# Altium schematic symbol library PCB_Project1.SCHLIB: 15 symbols
Pins are listed as number, name and electrical type; pins without a type are passive.

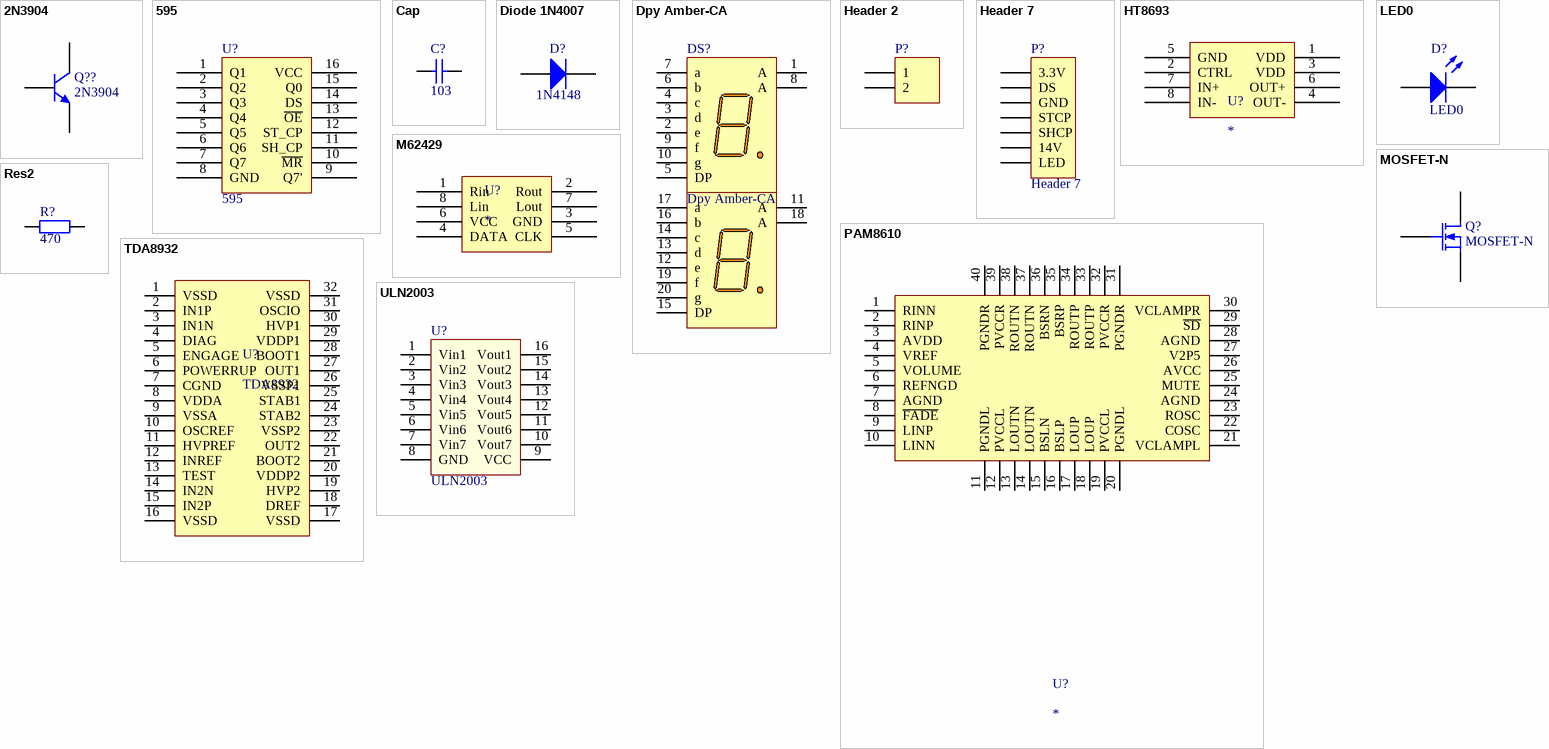
[diagram p0: symbols 2N3904 to ULN2003]

## 2N3904
designator Q??
NPN General Purpose Amplifier; Published: 8-Jun-2000; LatestRevisionDate: 15-Jan-2003; LatestRevisionNote: PCB Footprint 'BCY-W3/D4.7' replaced; DatasheetVersion: 1997; PackageVersion: Sep-1998; PackageReference: TO-92A; Publisher: Altium Limited; PackageDescription: TO, Flat Index; 3 In-Line, Axial Leads; Body Dia. 4.5mm; Leads 0.51 x 0.48 mm (max); ComponentLink1Description: Manufacturer Link; ComponentLink1URL: http://www.fairchildsemi.com/; ComponentLink2Description: Datasheet; ComponentLink2URL: http://www.fairchildsemi.com/ds/2N%2F2N3904.pdf
footprint TO-92A (TO, Flat Index; 3 In-Line, Axial Leads; Body Dia. 4.5mm; Leads 0.51 x 0.48 mm (max))
simulation model 2N3904 (NPN)
signal-integrity model 2N3904
pins: 1 E, 2 B, 3 C

## 595
designator U?
footprint SO-16
pins: 1 Q1, 2 Q2, 3 Q3, 4 Q4, 5 Q5, 6 Q6, 7 Q7, 8 GND, 9 Q7', 10 ~{MR}, 11 SH_CP, 12 ST_CP, 13 ~{OE}, 14 DS, 15 Q0, 16 VCC

## Cap
designator C?  value 103  (hidden comment: Cap)
Capacitor; Published: 8-Jun-2000; LatestRevisionDate: 17-Jul-2002; LatestRevisionNote: Re-released for DXP Platform.; PackageReference: RAD-0.3; Publisher: Altium Limited; PackageDescription: Radial Cap, Thru-Hole; 2 Leads; 0.3 in Pin Spacing
footprint RAD-0.3 (Radial Cap, Thru-Hole; 2 Leads; 0.3 in Pin Spacing)
simulation model CAP (Capacitor)
signal-integrity model Cap
pins: 1, 2

## Diode 1N4007
designator D?, comment 1N4148
1 Amp General Purpose Rectifier; Published: 8-Jun-2000; LatestRevisionDate: 17-Jul-2002; LatestRevisionNote: Re-released for DXP Platform.; DatasheetVersion: 1998; PackageVersion: Aug-1999; PackageReference: DO-41; Publisher: Altium Limited; PackageDescription: Diode, Axial; Body 5.2 x 2.7 mm (LxDia. max), Lead Dia. 0.86 mm (max); Code_JEDEC: DO-204-AL; ComponentLink1Description: Manufacturer Link; ComponentLink1URL: http://www.fairchildsemi.com/; ComponentLink2Description: Datasheet; ComponentLink2URL: http://www.fairchildsemi.com/ds/1N%2F1N4001.pdf
footprint DO-41 (Diode, Axial; Body 5.2 x 2.7 mm (LxDia. max), Lead Dia. 0.86 mm (max))
simulation model 1N4007 (DIODE)
signal-integrity model 1N4007
pins: 1 A, 2 K

## Dpy Amber-CA
designator DS?
7.62 mm Black Surface Orange 7-Segment Display: CA, RH DP; MinimumIntensity: 354 ucd; Note: IF = 5 mA; Note: Pins 1 and 6 are redundant Anodes.; Published: 8-Jun-2000; LatestRevisionDate: 17-Dec-2003; LatestRevisionNote: Schematic revised, PCB Footprint replaced.; DatasheetVersion: 19-Feb-2002; PackageVersion: 19-Feb-2002; PackageReference: LEDDIP-10; Publisher: Altium Limited; Colour: Orange; ComponentLink1Description: Manufacturer Link; ComponentLink1URL: http://www.agilent.com/
footprint 5英寸数码管
simulation model HDSP_A211 (SUBCKT)
pins: 1 A "Anode", 2 e "Cathode", 3 d "Cathode", 4 c "Cathode", 5 DP "Cathode", 6 b "Cathode", 7 a "Cathode", 8 A "Anode", 9 f "Cathode", 10 g "Cathode", 11 A "Anode", 12 e "Cathode", 13 d "Cathode", 14 c "Cathode", 15 DP "Cathode", 16 b "Cathode", 17 a "Cathode", 18 A "Anode", 19 f "Cathode", 20 g "Cathode"

## Header 2
designator P?  (value not drawn)
Header, 2-Pin; LatestRevisionDate: 17-Jul-2002; LatestRevisionNote: Re-released for DXP Platform.; Publisher: Altium Limited
footprint HDR1X2 (Connector; Header; 2 Position)
signal-integrity model Connector
pins: 1, 2

## Header 7
designator P?
Header, 7-Pin; LatestRevisionDate: 17-Jul-2002; LatestRevisionNote: Re-released for DXP Platform.; Publisher: Altium Limited
footprint H1
signal-integrity model Connector
pins: 1 3.3V, 2 DS, 3 GND, 4 STCP, 5 SHCP, 6 14V, 7 LED

## HT8693
designator U?
pins: 1 VDD, 2 CTRL, 3 VDD, 4 OUT-, 5 GND, 6 OUT+, 7 IN+, 8 IN-

## LED0
designator D?
Typical INFRARED GaAs LED; Published: 8-Jun-2000; LatestRevisionDate: 08-Jul-2005; LatestRevisionNote: Mech Layer 1 removed.; PackageReference: LED-0; Publisher: Altium Limited
footprint led
simulation model LED0 (Diode)
pins: 1 A, 2 K

## M62429
designator U?
pins: 1 Rin, 2 Rout, 3 GND, 4 DATA, 5 CLK, 6 VCC, 7 Lout, 8 Lin

## MOSFET-N
designator Q?
N-Channel MOSFET; Published: 8-Jun-2000; LatestRevisionDate: 17-Jul-2002; LatestRevisionNote: Re-released for DXP Platform.; PackageVersion: 1995/1996; PackageReference: E3; Publisher: Altium Limited; PackageDescription: TO, Flat Index; 3 In-Line, Axial Leads; Body Dia. 4.6mm; Lead Dia. 0.5 mm (max)
footprint E3 (TO, Flat Index; 3 In-Line, Axial Leads; Body Dia. 4.6mm; Lead Dia. 0.5 mm (max))
simulation model NMOS (MOSFET-N)
pins: 1 D, 2 G, 3 S

## PAM8610
designator U?
pins: 1 RINN, 2 RINP, 3 AVDD, 4 VREF, 5 VOLUME, 6 REFNGD, 7 AGND, 8 ~{FADE}, 9 LINP, 10 LINN, 11 PGNDL, 12 PVCCL, 13 LOUTN, 14 LOUTN, 15 BSLN, 16 BSLP, 17 LOUP, 18 LOUP, 19 PVCCL, 20 PGNDL, 21 VCLAMPL, 22 COSC, 23 ROSC, 24 AGND, 25 MUTE, 26 AVCC, 27 V2P5, 28 AGND, 29 ~{SD}, 30 VCLAMPR, 31 PGNDR, 32 PVCCR, 33 ROUTP, 34 ROUTP, 35 BSRP, 36 BSRN, 37 ROUTN, 38 ROUTN, 39 PVCCR, 40 PGNDR

## Res2
designator R?  value 470  (hidden comment: Res2)
Resistor; Published: 8-Jun-2000; LatestRevisionDate: 17-Jul-2002; LatestRevisionNote: Re-released for DXP Platform.; PackageReference: AXIAL-0.4; Publisher: Altium Limited
footprint 0805
simulation model RESISTOR (Resistor)
signal-integrity model Res
pins: 1, 2

## TDA8932
designator U?
pins: 1 VSSD, 2 IN1P, 3 IN1N, 4 DIAG, 5 ENGAGE, 6 POWERRUP, 7 CGND, 8 VDDA, 9 VSSA, 10 OSCREF, 11 HVPREF, 12 INREF, 13 TEST, 14 IN2N, 15 IN2P, 16 VSSD, 17 VSSD, 18 DREF, 19 HVP2, 20 VDDP2, 21 BOOT2, 22 OUT2, 23 VSSP2, 24 STAB2, 25 STAB1, 26 VSSP1, 27 OUT1, 28 BOOT1, 29 VDDP1, 30 HVP1, 31 OSCIO, 32 VSSD

## ULN2003
designator U?
footprint SOP127P600X265-16N (SOP, 16-Leads, Body 9.95x3.90mm, Pitch 1.27mm, IPC Medium Density)
pins: 1 Vin1, 2 Vin2, 3 Vin3, 4 Vin4, 5 Vin5, 6 Vin6, 7 Vin7, 8 GND, 9 VCC, 10 Vout7, 11 Vout6, 12 Vout5, 13 Vout4, 14 Vout3, 15 Vout2, 16 Vout1